# Altium footprint library RF_VIDEO_MODULE2.PcbLib: 1 footprints
Each footprint in its own frame and in the unit in brackets; x right, y up, seen from the top. Pads: shape width x height; smd on the part's side, far side on the other; paste and mask are expansions set on the pad; w line width, h text height; cw(c..) or ccw(c..) is an arc to the next point about the centre after c.
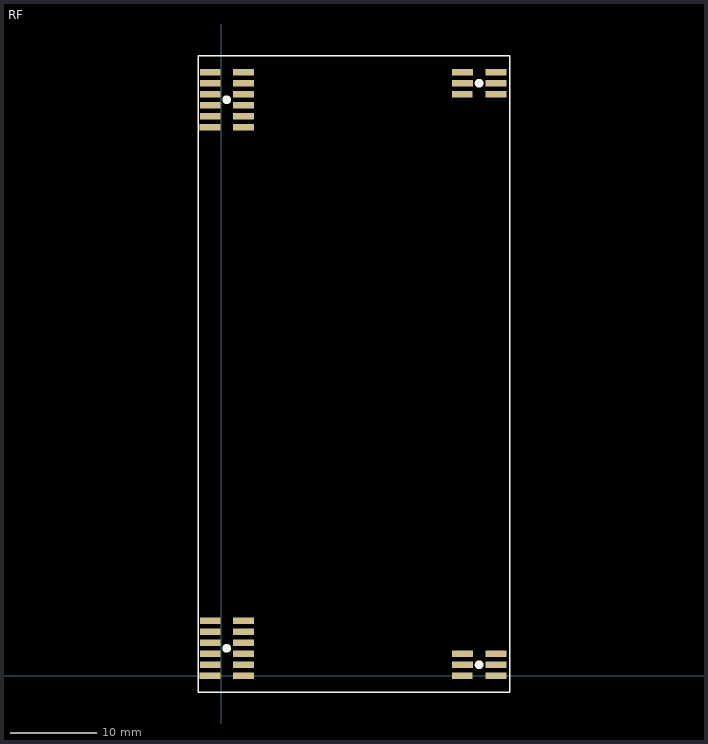
[diagram p0: the footprint, top view; thin cyan lines are the x and y axes]

## RF [mil]
pads (36):
  rect 95x30 smd: +3.3V(-50,100) +3.3V(101.77,100) +5V(-51.77,0) +5V(-50,50) +5V(101.77,0) +5V(101.77,50) A_CH_1(-51.77,2500) A_CH_2(-50,2550) A_CH_3(-50,2600) B_CH_1(-50,2650) B_CH_2(-50,2700) B_CH_3(-50,2750) GND(-50,150) GND(-50,250) GND(101.77,150) GND(101.77,200) GND(101.77,250) GND(101.77,2600) GND(101.77,2650) GND(1098.23,0) GND(1098.23,2650) GND(1100,50) GND(1100,100) GND(1100,2700) GND(1100,2750) GND(1251.77,0) GND(1251.77,50) GND(1251.77,100) GND(1251.77,2650) GND(1251.77,2700) GND(1251.77,2750) ON1(101.77,2500) ON2(101.77,2550) RF1(-50,200) SCL(101.77,2750) SDA(101.77,2700)
Top Overlay:
  circle w20: c1175,2700 r10
  circle w20: c25,2625 r10
  circle w20: c25,125 r10
  circle w20: c1175,50 r10
  lines w7.87: -105,-75 -105,2825 1315,2825 1315,315 1315,-75 -105,-75